# Altium schematic symbol library IR2104SPBF.SchLib: 2 symbols
Pins are listed as number, name and electrical type; pins without a type are passive.

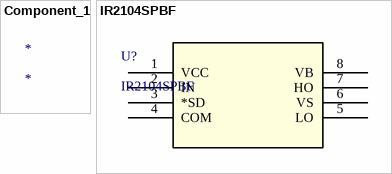
[diagram p0: symbols Component_1 to IR2104SPBF]

## Component_1
designator *

## IR2104SPBF
designator U?
No Description Available; Mfr_Name: Infineon; Copyright: Copyright (C) 2023 Ultra Librarian. All rights reserved.; Manufacturer_Part_Number: IR2104SPBF; RefDes: RefDes; Type: DEV
footprint SOIC8_INF
pins: 1 VCC (power), 2 IN, 3 *SD, 4 COM, 5 LO, 6 VS, 7 HO, 8 VB